# Altium footprint library Connectors.PcbLib: 27 footprints (part 2 of 2)
Each footprint in its own frame and in the unit in brackets; x right, y up, seen from the top. Pads: shape width x height; smd on the part's side, far side on the other; paste and mask are expansions set on the pad; w line width, h text height; cw(c..) or ccw(c..) is an arc to the next point about the centre after c.
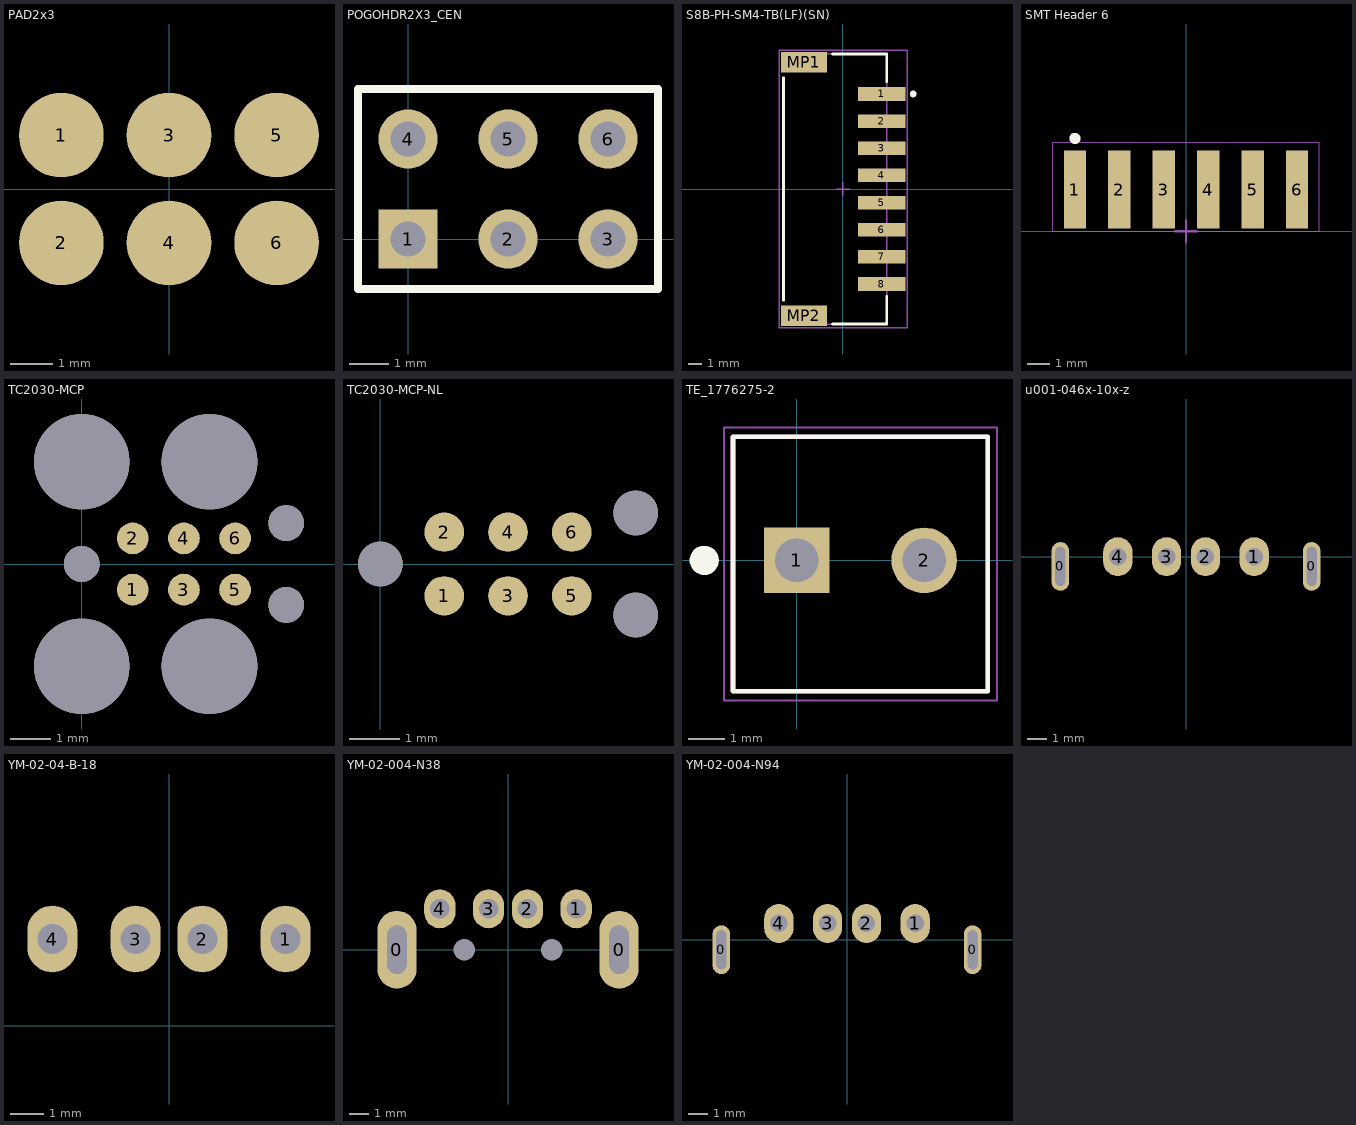
[diagram p1: the footprints below, top view; thin cyan lines are the x and y axes]

## PAD2x3 [mm] "Pogo pin contact pads 2x3, 2.54 mm pitch"
pads (6):
  round 2 smd: 1(-2.54,1.27) 2(-2.54,-1.27) 3(0,1.27) 4(0,-1.27) 5(2.54,1.27) 6(2.54,-1.27)

## POGOHDR2X3_CEN [mm] "Connector; Header; 3x2 Position"
pads (6):
  rect 1.5x1.5 hole 0.9: 1(0,0)
  round 1.5 hole 0.9: 2(2.54,0) 3(5.08,0) 4(0,2.54) 5(2.54,2.54) 6(5.08,2.54)
Top Overlay:
  lines w0.2: -1.27,-1.27 -1.27,3.81 6.35,3.81 6.35,-1.27 -1.27,-1.27
3D body: height 5.24, standoff -2.55, extent -1.27,-1.27 6.35,3.81

## S8B-PH-SM4-TB(LF)(SN) [mm]
pads (10):
  rect 3.5x1 smd: 1(2.87,7) 2(2.87,5) 3(2.87,3) 4(2.87,1) 5(2.87,-1) 6(2.87,-3) 7(2.87,-5) 8(2.87,-7)
  rect 3.4x1.5 smd: MP1(-2.88,9.35) MP2(-2.88,-9.35)
Top Overlay:
  circle w0.25: c5.17,7 r0.125
  lines w0.2: -4.38,-8.2 -4.38,8.2 ; -0.78,-9.95 3.22,-9.95 3.22,-7.9 ; -0.78,9.95 3.22,9.95 3.22,7.9
3D Top:
  lines w0.1: -4.38,-9.95 3.22,-9.95 ; -4.38,-7.95 -4.38,7.95 ; -4.38,9.95 3.22,9.95 ; 3.22,-7.95 3.22,7.95
Courtyard Top:
  lines w0.1: -0.505,0 0.495,0 ; -0.005,-0.5 -0.005,0.5 ; -4.705,-10.225 4.745,-10.225 4.745,10.225 -4.705,10.225 -4.705,-10.225
3D body: height 5.5, standoff -0.1, extent -4.38,-9.95 4.221,9.95

## SMT Header 6 [mm] "SMD, 2-Leads, Body 15.9x7.6mm, Pitch 2mm"
height 0.5
pads (6):
  rect 1x3.5 smd: 1(-5,1.875) 2(-3,1.875) 3(-1,1.875) 4(1,1.875) 5(3,1.875) 6(5,1.875)
Top Overlay:
  circle w0.25: c-5,4.175 r0.125
Outline:
  lines w0.051: -6,0 -6,4 6,4 6,0 -6,0
Courtyard Top:
  lines w0.1: -0.5,0 0.5,0 ; 0,-0.5 0,0.5
3D body: height 0.1, standoff 0, extent -6,0 6,4

## TC2030-MCP [mil]
pads (13):
  rrect100% 31x31 smd paste-196.85: 1(50,-25) 2(50,25) 3(100,-25) 4(100,25) 5(150,-25) 6(150,25)
  round 93.5 hole 93.5 unplated: ""(0,-100) ""(0,100) ""(125,-100) ""(125,100)
  round 35 hole 35 unplated: ""(0,0) ""(200,-40) ""(200,40)
Mechanical 30:
  region: 0,0 10,0 10,10 0,10

## TC2030-MCP-NL [mil]
pads (9):
  rrect100% 31x31 smd paste-196.85: 1(50,-25) 2(50,25) 3(100,-25) 4(100,25) 5(150,-25) 6(150,25)
  round 35 hole 35 unplated: ""(0,0) ""(200,-40) ""(200,40)
Mechanical 30:
  region: 0,0 10,0 10,10 0,10

## TE_1776275-2 [mm]
pads (2):
  rect 1.8x1.8 hole 1.2: 1(0,0)
  round 1.8 hole 1.2: 2(3.5,0)
Top Overlay:
  circle w0.4: c-2.54,0 r0.2
  lines w0.127: -1.75,-3.6 -1.75,3.4 5.25,3.4 5.25,-3.6 -1.75,-3.6
Outline:
  circle w0.4: c0,0 r0.2
  lines w0.05: -2,-3.85 -2,3.65 5.5,3.65 5.5,-3.85 -2,-3.85
  lines w0.127: -1.75,-3.6 -1.75,3.4 5.25,3.4 5.25,-3.6 -1.75,-3.6
3D body: height 8.3, standoff -4.2, extent -2.252,-3.595 5.748,3.405

## u001-046x-10x-z [mm]
pads (6):
  oval 0.9x2.5 hole 0.5 slot 2 at 90 deg: 0(-6.45,-0.5) 0(6.45,-0.5)
  oval 1.5x2 hole 0.9: 1(3.5,0) 2(1,0) 3(-1,0) 4(-3.5,0)
3D body: height 6.9, standoff 0, extent -7.319,-12.728 7.316,0.959

## YM-02-04-B-18 [mm]
pads (4):
  oval 1.5x2 hole 0.9: 1(3.5,2.6) 2(1,2.6) 3(-1,2.6) 4(-3.5,2.6)
3D body: height 6.9, standoff 0, extent -7.155,-10.415 7.164,3.64

## YM-02-004-N38 [mm]
pads (8):
  oval 2x4 hole 1 slot 2.5 at 90 deg: 0(-5.7,0) 0(5.7,0)
  round 0 hole 1.1: 0(-2.25,0) 0(2.25,0)
  oval 1.6x2 hole 1: 1(3.5,2.1) 2(1,2.1) 3(-1,2.1) 4(-3.5,2.1)
3D body: height 4.5, standoff 0, extent -5.991,-17.602 5.982,1.253

## YM-02-004-N94 [mm]
pads (6):
  oval 0.9x2.5 hole 0.5 slot 2 at 90 deg: 0(-6.45,-0.5) 0(6.45,-0.5)
  oval 1.5x2 hole 0.9: 1(3.5,0.85) 2(1,0.85) 3(-1,0.85) 4(-3.5,0.85)
3D body: height 6.9, standoff 0, extent -7.319,-12.728 7.316,0.959